# Altium schematic symbol library IIS2MDCTR.SchLib: 1 symbol
Pins are listed as number, name and electrical type; pins without a type are passive.

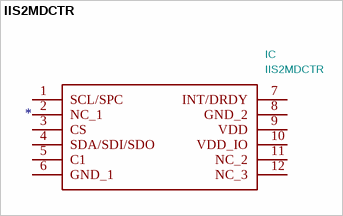
[diagram p0: symbol IIS2MDCTR]

## IIS2MDCTR
designator IC  value IIS2MDCTR
STMICROELECTRONICS - IIS2MDCTR - MEMS MODULE, 3-AXIS MAGNETOMETER, LGA-12; Footprint: IIS2MDCTR; Supplier: https://www.st.com/resource/en/datasheet/iis2mdc.pdf; Description_: STMICROELECTRONICS - IIS2MDCTR - MEMS MODULE, 3-AXIS MAGNETOMETER, LGA-12; Height: 0.7; Manufacturer_Name: STMicroelectronics; Manufacturer_Part_Number: IIS2MDCTR; Mouser Part Number: 511-IIS2MDCTR; Mouser Price/Stock: https://www.mouser.com/Search/Refine.aspx?Keyword=511-IIS2MDCTR
footprint IIS2MDCTR
pins: 1 SCL/SPC, 2 NC_1, 3 CS, 4 SDA/SDI/SDO, 5 C1, 6 GND_1, 7 INT/DRDY, 8 GND_2, 9 VDD, 10 VDD_IO, 11 NC_2, 12 NC_3